# Altium schematic symbol library MeasuringPoint.SchLib: 1 symbol
Pins are listed as number, name and electrical type; pins without a type are passive.

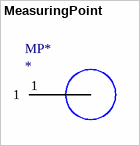
[diagram p0: symbol MeasuringPoint]

## MeasuringPoint
designator MP*
1,2mm hole for measuring purpose. Designator should be signal name.
footprint MeasuringPoint
pins: 1